# EAGLE library part 8051_HAT (library Labops_Lib_AH)
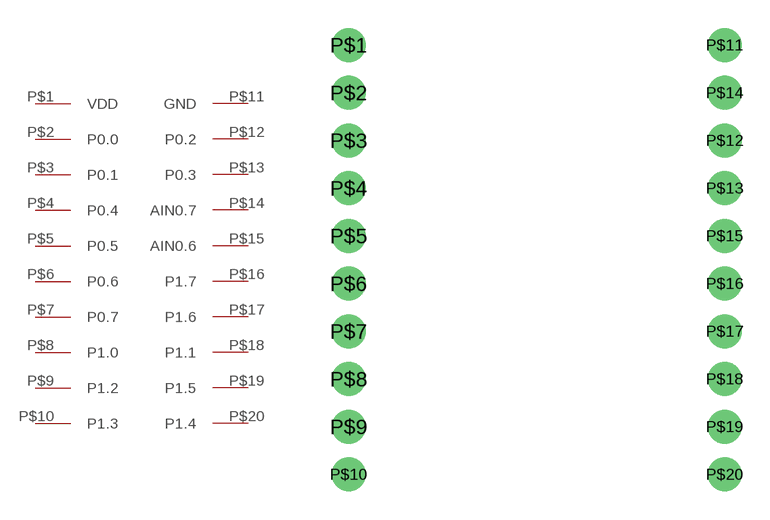
[diagram p22: symbol with the pads of 8051_HAT; footprint 8051_HAT]

Designator prefix -

## 8051_HAT  [8051_HAT]
P$1  VDD
P$2  P0.0
P$3  P0.1
P$4  P0.4
P$5  P0.5
P$6  P0.6
P$7  P0.7
P$8  P1.0
P$9  P1.2
P$10  P1.3
P$11  GND
P$12  P0.2
P$13  P0.3
P$14  AIN0.7
P$15  AIN0.6
P$16  P1.7
P$17  P1.6
P$18  P1.1
P$19  P1.5
P$20  P1.4

## Footprint 8051_HAT (pad centres in mm)
drill 1.2 pad 1.6: P$1 0,22.86; P$2 0,20.32; P$3 0,17.78; P$4 0,15.24; P$5 0,12.7; P$6 0,10.16; P$7 0,7.62; P$8 0,5.08; P$9 0,2.54; P$10 0,0; P$11 20,22.86; P$12 20,17.78; P$13 20,15.24; P$14 20,20.32; P$15 20,12.7; P$16 20,10.16; P$17 20,7.62; P$18 20,5.08; P$19 20,2.54; P$20 20,0